# Altium schematic symbol library Optocoupler.SchLib: 1 symbol
Pins are listed as number, name and electrical type; pins without a type are passive.

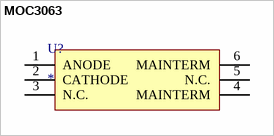
[diagram p0: symbol MOC3063]

## MOC3063
designator U?
OPTOISOLATOR 5KV TRIAC
pins: 1 ANODE, 2 CATHODE, 3 N.C., 4 MAINTERM, 5 N.C., 6 MAINTERM